# EAGLE library part G1226B1N000/G1226D1N000 (library 180118 Library by matsu)
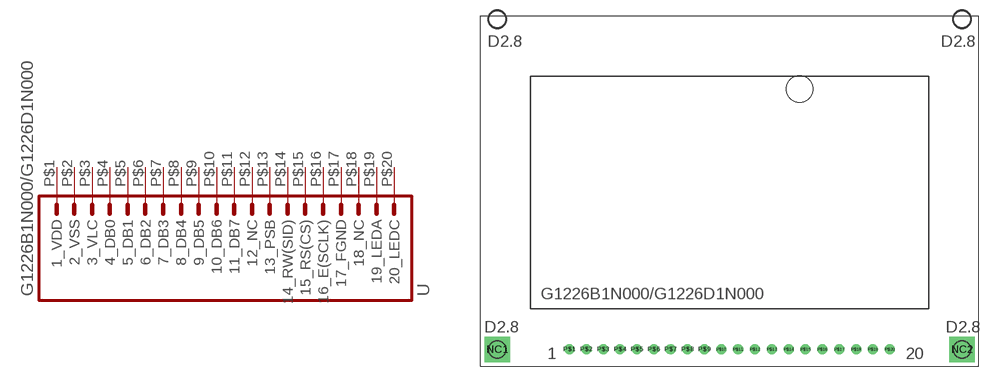
[diagram p49: symbol with the pads of G1226B1N000/G1226D1N000; footprint G1226B1N000/G1226D1N000]

Designator prefix -

## G1226B1N000/G1226D1N000  [G1226B1N000/G1226D1N000]
P$1  1_VDD  pwr
P$2  2_VSS  pwr
P$3  3_VLC
P$4  4_DB0
P$5  5_DB1
P$6  6_DB2
P$7  7_DB3
P$8  8_DB4
P$9  9_DB5
P$10  10_DB6
P$11  11_DB7
P$12  12_NC
P$13  13_PSB
P$14  14_RW(SID)
P$15  15_RS(CS)
P$16  16_E(SCLK)
P$17  17_FGND
P$18  18_NC
P$19  19_LEDA
P$20  20_LEDC

## Footprint G1226B1N000/G1226D1N000 (pad centres in mm)
drill 2.8 square: NC1 2.5,2.5; NC2 72.5,2.5
drill 1: P$1 13.37,2.5; P$2 15.91,2.5; P$3 18.45,2.5; P$4 20.99,2.5; P$5 23.53,2.5; P$6 26.07,2.5; P$7 28.61,2.5; P$8 31.15,2.5; P$9 33.69,2.5; P$10 36.23,2.5; P$11 38.77,2.5; P$12 41.31,2.5; P$13 43.85,2.5; P$14 46.39,2.5; P$15 48.93,2.5; P$16 51.47,2.5; P$17 54.01,2.5; P$18 56.55,2.5; P$19 59.09,2.5; P$20 61.63,2.5
hole 4 at 48,41.7
hole 2.8 at 2.5,52.2
hole 2.8 at 72.5,52.2